# EAGLE library part MCP16251/2-TDFN (library MCP16251-2)
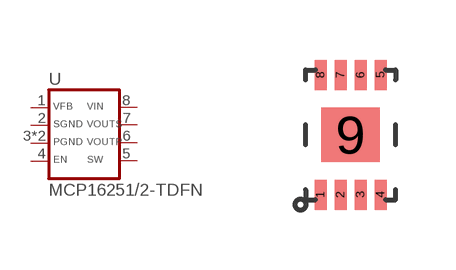
[diagram p1: symbol with the pads of TDFN-8; footprint TDFN-8]

Designator prefix -

## MCP16251/2-TDFN  [TDFN-8]
1  VFB  pas
2  SGND  pas
3  PGND  pas
4  EN  pas
5  SW  pas
6  VOUTP  pas
7  VOUTS  pas
8  VIN  pas
9  PGND  pas

## Footprint TDFN-8 (pad centres in mm)
smd 0.3 x 0.75: 1 -0.75,-1.5; 2 -0.25,-1.5; 3 0.25,-1.5; 4 0.75,-1.5; 5 0.75,1.5; 6 0.25,1.5; 7 -0.25,1.5; 8 -0.75,1.5
smd 1.46 x 1.36: 9 0,0